# Altium footprint library Driver.PcbLib: 20 footprints (part 1 of 2)
Each footprint in its own frame and in the unit in brackets; x right, y up, seen from the top. Pads: shape width x height; smd on the part's side, far side on the other; paste and mask are expansions set on the pad; w line width, h text height; cw(c..) or ccw(c..) is an arc to the next point about the centre after c.
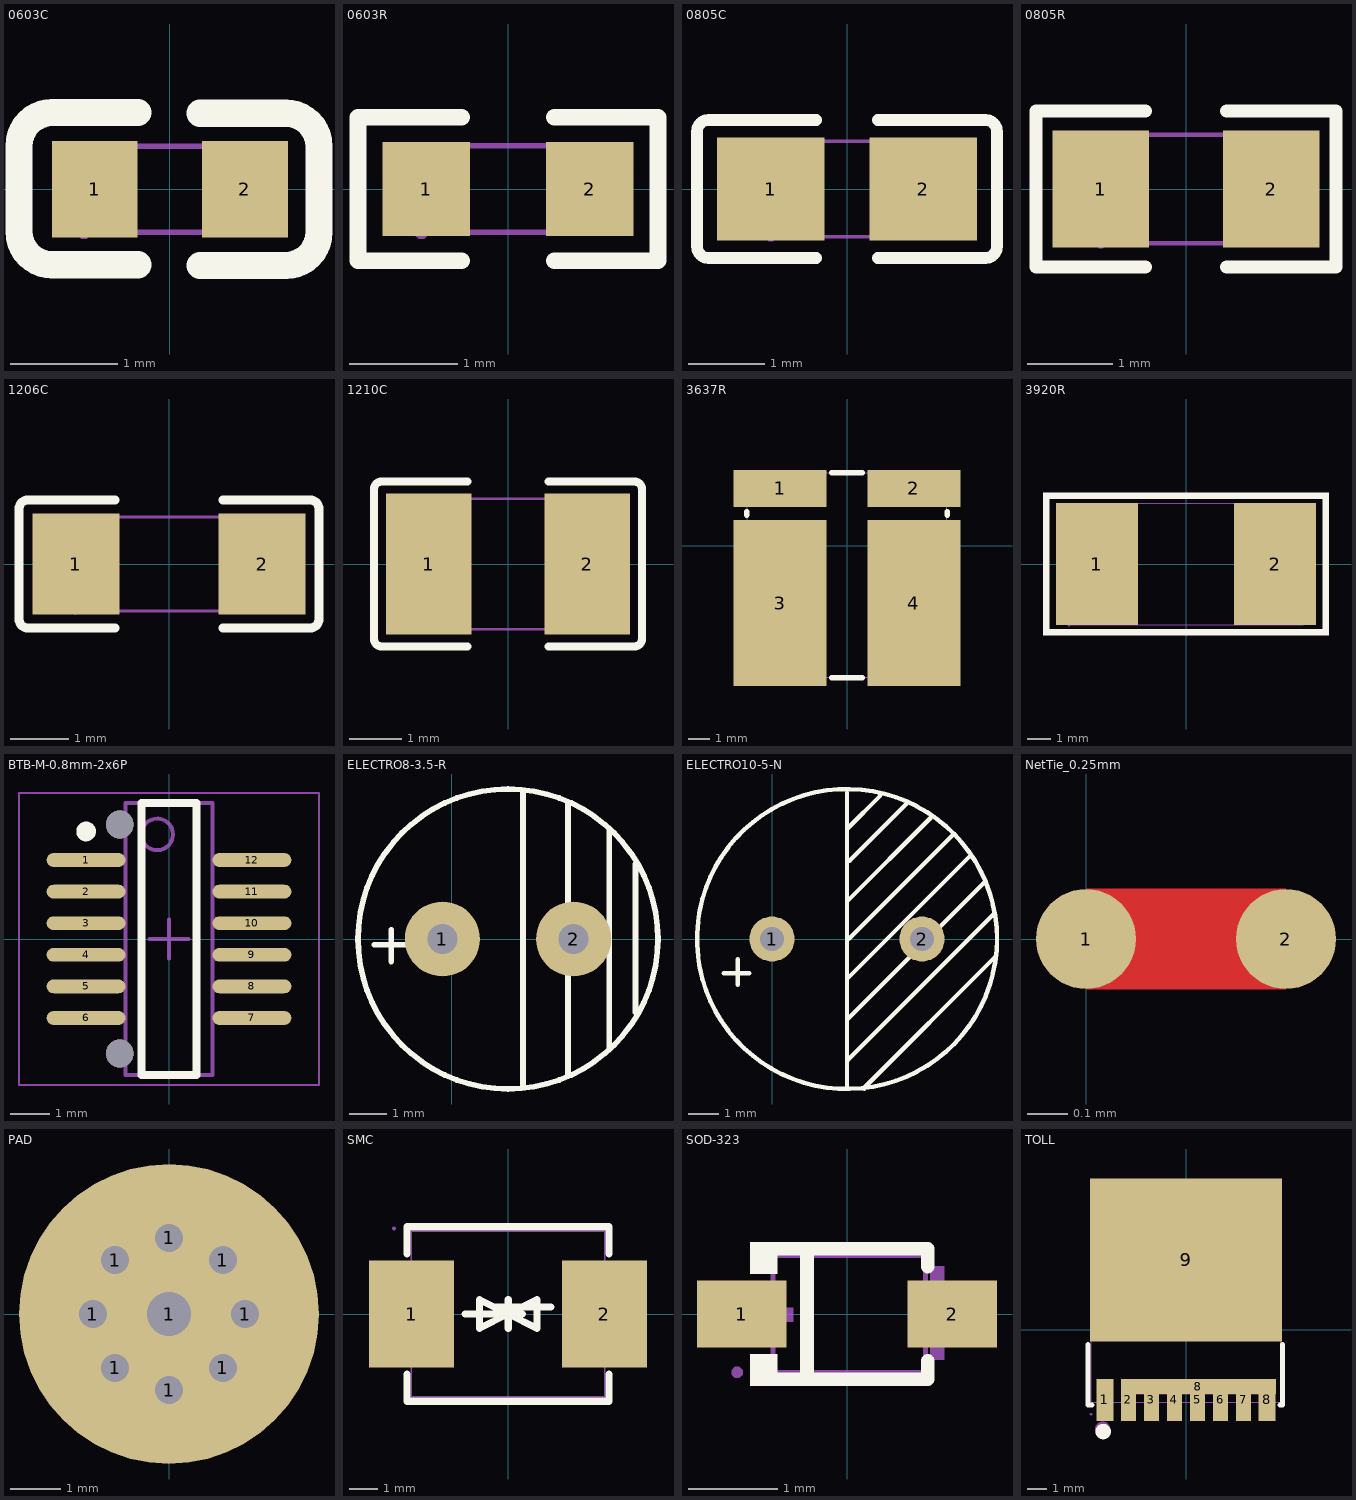
[diagram p0: the footprints below, top view; thin cyan lines are the x and y axes]

## 0603C [mm]
pads (2):
  rect 0.8x0.9 smd: 1(-0.7,0) 2(0.7,0)
Top Overlay:
  lines w0.254: -0.296,-0.704 -1.096,-0.704 cw(c-1.096,-0.394) -1.406,-0.394 -1.405,0.406 cw(c-1.096,0.406) -1.096,0.715 -0.296,0.715 ; 0.28,-0.71 1.08,-0.71 ccw(c1.08,-0.4) 1.39,-0.4 1.39,0.4 ccw(c1.08,0.4) 1.08,0.71 0.28,0.71
Mechanical 15:
  region: -0.8,-0.4 -0.8,0.4 -0.5,0.4 -0.5,-0.4
  region: 0.8,-0.4 0.8,0.4 0.5,0.4 0.5,-0.4
  region: -0.74,-0.4 -0.74,-0.375 -0.775,-0.34 -0.825,-0.34 -0.86,-0.375 -0.86,-0.4 -0.86,-0.425 -0.825,-0.46 -0.775,-0.46 -0.74,-0.425 -0.74,-0.4
  lines w0.051: -0.8,-0.4 -0.8,0.4 0.8,0.4 0.8,-0.4 -0.8,-0.4
3D body "cap_0603_lowprofile.step": height 0.6, standoff 0, extent -0.8,-0.381 0.8,0.419

## 0603R [mm]
pads (2):
  rect 0.806x0.864 smd paste-100 mask+0.051: 1(-0.753,0) 2(0.753,0)
Top Overlay:
  lines w0.152: -0.426,-0.661 -1.385,-0.661 -1.385,0.661 -0.426,0.661 ; 0.426,-0.661 1.385,-0.661 1.385,0.661 0.426,0.661
Top Paste:
  region: -0.355,0.4 -0.355,0.172 -0.735,0.172 -0.735,-0.158 -0.355,-0.158 -0.355,-0.4 -0.405,-0.45 -1.195,-0.45 -1.245,-0.4 -1.245,0.4 -1.195,0.45 -0.405,0.45
  region: 1.195,0.45 0.395,0.45 0.345,0.4 0.345,0.172 0.715,0.172 0.715,-0.158 0.345,-0.158 0.345,-0.4 0.395,-0.45 1.195,-0.45 1.245,-0.4 1.245,0.4
Mechanical 15:
  region: -0.74,-0.4 -0.74,-0.375 -0.775,-0.34 -0.825,-0.34 -0.86,-0.375 -0.86,-0.4 -0.86,-0.425 -0.825,-0.46 -0.775,-0.46 -0.74,-0.425 -0.74,-0.4
  region: 0.8,-0.4 0.8,0.4 0.5,0.4 0.5,-0.4
  region: -0.8,-0.4 -0.8,0.4 -0.5,0.4 -0.5,-0.4
  lines w0.051: -0.8,-0.4 0.8,-0.4 0.8,0.4 -0.8,0.4 -0.8,-0.4
3D body "RESC1608(0603).STEP": height 0.38, standoff 0, extent -0.8,-0.4 0.8,0.4

## 0805C [mm]
pads (2):
  rect 1.41x1.35 smd paste-100 mask+0.051: 1(-1,0) 2(1,0)
Top Overlay:
  lines w0.152: -0.401,-0.904 -1.811,-0.904 cw(c-1.811,-0.751) -1.964,-0.751 -1.964,0.751 cw(c-1.811,0.751) -1.811,0.904 -0.401,0.904 ; 0.401,-0.904 1.811,-0.904 ccw(c1.811,-0.751) 1.964,-0.751 1.964,0.751 ccw(c1.811,0.751) 1.811,0.904 0.401,0.904
Top Paste:
  region: -1.675,-0.62 -1.675,0.66 -1.625,0.71 -0.475,0.71 -0.425,0.66 -0.42,0.25 -0.87,0.25 -0.87,-0.2 -0.43,-0.2 -0.425,-0.62 -0.475,-0.67 -1.625,-0.67
  region: 0.475,-0.62 0.475,-0.2 0.92,-0.2 0.92,0.25 0.48,0.25 0.475,0.66 0.525,0.71 1.675,0.71 1.725,0.66 1.725,-0.62 1.675,-0.67 0.525,-0.67
Mechanical 15:
  region: -1,-0.625 -1,0.625 -0.5,0.625 -0.5,-0.625
  region: 1,0.625 1,-0.625 0.5,-0.625 0.5,0.625
  region: -0.94,-0.625 -0.94,-0.6 -0.975,-0.565 -1.025,-0.565 -1.06,-0.6 -1.06,-0.625 -1.06,-0.65 -1.025,-0.685 -0.975,-0.685 -0.94,-0.65 -0.94,-0.625
  lines w0.051: -1,-0.625 -1,0.625 1,0.625 1,-0.625 -1,-0.625
3D body "CAPC2012(0805).STEP": height 0.95, standoff 0, extent -1,-0.6 1,0.6

## 0805R [mm]
pads (2):
  rect 1.133x1.377 smd paste-100 mask+0.051: 1(-1,0) 2(1,0)
Top Overlay:
  lines w0.152: -0.476,-0.917 -1.761,-0.917 -1.761,0.917 -0.476,0.917 ; 0.476,-0.917 1.761,-0.917 1.761,0.917 0.476,0.917
Top Paste:
  region: 0.45,-0.64 0.45,-0.22 0.895,-0.22 0.895,0.23 0.455,0.23 0.45,0.64 0.5,0.69 1.65,0.69 1.7,0.64 1.7,-0.64 1.65,-0.69 0.5,-0.69
  region: -1.7,-0.64 -1.7,0.64 -1.65,0.69 -0.5,0.69 -0.45,0.64 -0.445,0.23 -0.895,0.23 -0.895,-0.22 -0.455,-0.22 -0.45,-0.64 -0.5,-0.69 -1.65,-0.69
Mechanical 15:
  region: -0.94,-0.638 -0.94,-0.613 -0.975,-0.578 -1.025,-0.578 -1.06,-0.613 -1.06,-0.638 -1.06,-0.662 -1.025,-0.698 -0.975,-0.698 -0.94,-0.662 -0.94,-0.638
  region: 1,-0.637 1,0.637 0.6,0.637 0.6,-0.637
  region: -1,-0.637 -1,0.637 -0.6,0.637 -0.6,-0.637
  lines w0.051: -1,-0.637 1,-0.637 1,0.637 -1,0.637 -1,-0.637
3D body "RESC2012(0805).STEP": height 0.5, standoff 0, extent -1,-0.6 1,0.6

## 1206C [mm]
pads (2):
  rect 1.485x1.728 smd paste-100 mask+0.051: 1(-1.593,0) 2(1.593,0)
Top Overlay:
  lines w0.152: -0.926,-1.093 -2.411,-1.093 cw(c-2.411,-0.94) -2.564,-0.94 -2.564,0.94 cw(c-2.411,0.94) -2.411,1.093 -0.926,1.093 ; 0.926,-1.093 2.411,-1.093 ccw(c2.411,-0.94) 2.564,-0.94 2.564,0.94 ccw(c2.411,0.94) 2.411,1.093 0.926,1.093
Top Paste:
  region: 0.85,-0.764 0.85,-0.394 0.95,-0.294 1.255,-0.294 1.355,-0.194 1.355,0.194 1.255,0.294 0.95,0.294 0.85,0.394 0.85,0.764 0.95,0.864 2.235,0.864 2.335,0.764 2.335,-0.764 2.235,-0.864 0.95,-0.864
  region: -0.85,-0.764 -0.85,-0.394 -0.95,-0.294 -1.255,-0.294 -1.355,-0.194 -1.355,0.194 -1.255,0.294 -0.95,0.294 -0.85,0.394 -0.85,0.764 -0.95,0.864 -2.235,0.864 -2.335,0.764 -2.335,-0.764 -2.235,-0.864 -0.95,-0.864
Mechanical 15:
  region: -1.54,-0.8 -1.54,-0.775 -1.575,-0.74 -1.625,-0.74 -1.66,-0.775 -1.66,-0.8 -1.66,-0.825 -1.625,-0.86 -1.575,-0.86 -1.54,-0.825 -1.54,-0.8
  region: -1.6,-0.8 -1.6,0.8 -1.1,0.8 -1.1,-0.8
  region: 1.6,-0.8 1.6,0.8 1.1,0.8 1.1,-0.8
  lines w0.051: -1.6,-0.8 -1.6,0.8 1.6,0.8 1.6,-0.8 -1.6,-0.8
3D body "C 1206.STEP": height 1.21, standoff -0.01, extent -1.6,-0.81 1.6,0.81

## 1210C [mm]
pads (2):
  rect 1.635x2.7 smd paste-100 mask+0.051: 1(-1.517,0) 2(1.517,0)
Top Overlay:
  lines w0.152: -0.776,-1.579 -2.411,-1.579 cw(c-2.411,-1.426) -2.564,-1.426 -2.564,1.426 cw(c-2.411,1.426) -2.411,1.579 -0.776,1.579 ; 0.776,-1.579 2.411,-1.579 ccw(c2.411,-1.426) 2.564,-1.426 2.564,1.426 ccw(c2.411,1.426) 2.411,1.579 0.776,1.579
Top Paste:
  region: 0.7,-1.25 0.7,-0.559 0.8,-0.459 1.156,-0.459 1.256,-0.359 1.256,0.359 1.156,0.459 0.8,0.459 0.7,0.559 0.7,1.25 0.8,1.35 2.235,1.35 2.335,1.25 2.335,-1.25 2.235,-1.35 0.8,-1.35
  region: -0.7,-1.25 -0.7,-0.559 -0.8,-0.459 -1.156,-0.459 -1.256,-0.359 -1.256,0.359 -1.156,0.459 -0.8,0.459 -0.7,0.559 -0.7,1.25 -0.8,1.35 -2.235,1.35 -2.335,1.25 -2.335,-1.25 -2.235,-1.35 -0.8,-1.35
Mechanical 15:
  region: -1.54,-1.25 -1.54,-1.225 -1.575,-1.19 -1.625,-1.19 -1.66,-1.225 -1.66,-1.25 -1.66,-1.275 -1.625,-1.31 -1.575,-1.31 -1.54,-1.275 -1.54,-1.25
  region: -1.6,-1.25 -1.6,1.25 -1,1.25 -1,-1.25
  region: 1.6,-1.25 1.6,1.25 1,1.25 1,-1.25
  lines w0.051: -1.6,-1.25 -1.6,1.25 1.6,1.25 1.6,-1.25 -1.6,-1.25
3D body "C 1210.STEP": height 1.54, standoff 0.01, extent -1.6,-1.285 1.6,1.285

## 3637R [mm]
pads (4):
  rect 4.27x1.68 smd paste+0 mask+0.05: 1(-3.075,2.63) 2(3.075,2.63)
  rect 4.27x7.62 smd paste+0 mask+0.05: 3(-3.075,-2.63) 4(3.075,-2.63)
Top Overlay:
  lines w0.254: -4.6,1.411 -4.6,1.559 ; -0.709,-6.05 0.709,-6.05 ; -0.709,3.35 0.709,3.35 ; 4.6,1.411 4.6,1.5 4.6,1.559
Mechanical 15:
  region: 1.06,0.954 4.57,0.954 4.57,-6.046 1.06,-6.046
  region: -4.57,0.954 -1.06,0.954 -1.06,-6.046 -4.57,-6.046
  region: -4.57,3.354 -1.06,3.354 -1.06,1.804 -4.57,1.804
  region: 1.06,3.354 4.57,3.354 4.57,1.804 1.06,1.804
  region: -4.57,3.294 -4.546,3.294 -4.511,3.329 -4.511,3.378 -4.545,3.413 -4.57,3.414 -4.594,3.413 -4.629,3.378 -4.629,3.33 -4.595,3.294 -4.57,3.294
  lines w0.051: -4.57,-6.046 4.57,-6.046 4.57,3.354 -4.57,3.354 -4.57,-6.046
3D body "3637R.STEP": height 1.35, standoff 0, extent -4.572,-6.229 4.528,3.181

## 3920R [mm]
pads (2):
  rect 3.5x5.2 smd: 1(-3.81,0) 2(3.81,0)
Top Overlay:
  region: 5.842,-3.048 -5.842,-3.048 -5.842,-2.794 5.842,-2.794
  region: 6.096,3.048 6.096,-3.048 5.842,-3.048 5.842,2.794
  region: -6.096,-3.048 -6.096,3.048 -5.842,3.048 6.096,3.048 6.096,2.794 -5.842,2.794 -5.842,-3.048
Mechanical 15:
  region: 5,-2.6 2.25,-2.6 2.25,2.6 5,2.6
  region: -5,2.6 -2.25,2.6 -2.25,-2.6 -5,-2.6
  region: -5,-2.66 -4.975,-2.66 -4.94,-2.625 -4.94,-2.575 -4.975,-2.54 -5,-2.54 -5.025,-2.54 -5.06,-2.575 -5.06,-2.625 -5.025,-2.66 -5,-2.66
  lines w0.051: -5,-2.6 -5,2.6 5,2.6 5,-2.6 -5,-2.6
3D body "3920R.STEP": height 0.93, standoff -0.09, extent -4.964,-2.56 4.964,2.54

## BTB-M-0.8mm-2x6P [mm] "0.8间距2x6P公座，SMD"
height 2
pads (12):
  oval 2x0.35 smd: 1(-2.1,2) 2(-2.1,1.2) 3(-2.1,0.4) 4(-2.1,-0.4) 5(-2.1,-1.2) 6(-2.1,-2) 7(2.1,-2) 8(2.1,-1.2) 9(2.1,-0.4) 10(2.1,0.4) 11(2.1,1.2) 12(2.1,2)
via -1.25,-2.9 diameter 0.7 hole 0.7
via -1.25,2.9 diameter 0.7 hole 0.7
Top Overlay:
  circle w0.25: c-2.1,2.725 r0.125
  lines w0.2: -0.7,-3.45 -0.7,3.45 0.7,3.45 0.7,-3.45 -0.7,-3.45
Mechanical 13:
  circle w0.1: c-0.3,2.65 r0.4
  lines w0.1: -1.1,-3.45 -1.1,3.45 1.1,3.45 1.1,-3.45 -1.1,-3.45
Mechanical 15:
  lines w0.05: -3.8,-3.7 -3.8,3.7 3.8,3.7 3.8,-3.7 -3.8,-3.7
  lines w0.1: -0.5,0 0.5,0 ; 0,-0.5 0,0.5
3D body: height 2, standoff 0.1, extent -1.1,-3.45 1.1,3.45

## ELECTRO8-3.5-R [mm]
pads (2):
  round 2 hole 0.8: 1(-0.25,0) 2(3.25,0)
Top Overlay:
  circle w0.15: c1.5,0 r4
  lines w0.15: -2.068,-0.15 -1.218,-0.15 ; -1.618,-0.6 -1.618,0.25 ; 1.9,-3.9 1.9,3.9 ; 3.1,-3.6 3.1,3.65 ; 4.2,-2.95 4.2,2.95 ; 4.9,-1.95 4.9,2
3D body "User_Library-CAP_8X11_5.step": height 11.54, standoff -18.95, extent -2.5,-4 5.5,4

## ELECTRO10-5-N [mm]
pads (2):
  round 1.5 hole 0.8: 1(0,0) 2(5,0)
Top Overlay:
  circle w0.15: c2.5,0 r5
  lines w0.15: -1.612,-1.143 -0.762,-1.143 ; -1.143,-1.524 -1.143,-0.674 ; 2.5,-4.918 2.5,0 ; 2.5,-4.034 2.525,-4.034 7.389,0.831 ; 2.5,-2.703 2.5,-2.687 7.087,1.9 ; 2.5,-1.491 2.5,-1.335 6.584,2.748 ; 2.5,1.194 2.5,1.248 5.291,4.039 ; 2.5,2.606 2.586,2.606 4.483,4.503 ; 2.5,3.696 2.525,3.696 3.614,4.785 ; 2.5,4.883 2.5,0 ; 3.071,-4.983 3.071,-4.963 7.45,-0.584 ; 6.017,3.454 2.563,0 2.5,0
3D body "User_Library-Cap_electro_10x12_5x5_0mm.step": height 12.78, standoff -3.73, extent -2.475,-5.025 7.575,5.025

## NetTie_0.25mm [mm] "Net tie, 0.25mm"
pads (2):
  round 0.25 smd paste-2: 1(0,0) 2(0.5,0)
Top Layer:
  region: 0,0.125 0.5,0.125 0.5,-0.125 0,-0.125

## PAD [mil] "Connector; Header; 3x2 Position"
pads (9):
  round 22 hole 22: 1(-60,0) 1(-42.43,-42.43) 1(-42.43,42.43) 1(0,-60) 1(0,60) 1(42.43,-42.43) 1(42.43,42.43) 1(60,0)
  round 236.22 hole 35: 1(0,0)

## SMC [mm]
pads (2):
  rect 3.03x3.82 smd: 1(-3.435,0) 2(3.435,0)
Top Overlay:
  lines w0.254: -3.6,-2.141 -3.6,-3.11 3.6,-3.11 3.6,-2.141 ; -3.6,2.141 -3.6,3.11 3.6,3.11 3.6,2.141 ; -1.524,0 0.508,0 ; -0.496,0.254 1.536,0.254 ; 0,-0.508 0,0.508 0,0 ; 0.012,0.508 0.012,-0.508 0.012,0 ; 0,0 -1.016,0.508 -1.016,-0.508 0,0 ; 0.012,0 1.028,0.508 1.028,-0.508 0.012,0
Mechanical 15:
  region: 2.812,1.525 3.952,1.525 3.952,-1.525 2.812,-1.525
  region: -3.949,1.525 -2.809,1.525 -2.809,-1.525 -3.949,-1.525
  region: -4.124,3.048 -4.124,3.023 -4.089,2.989 -4.039,2.989 -4.004,3.023 -4.004,3.048 -4.004,3.073 -4.039,3.107 -4.089,3.107 -4.124,3.073 -4.124,3.048
  lines w0.051: -3.45,-2.95 -3.45,2.95 3.45,2.95 3.45,-2.95 -3.45,-2.95
3D body "SMC.STEP": height 2.45, standoff 0.03, extent -3.953,-2.9 3.953,2.9

## SOD-323 [mm]
pads (2):
  rect 1x0.75 smd: 1(-1.173,0) 2(1.173,0)
Top Overlay:
  region: -0.775,-0.802 -0.775,-0.45 -1.08,-0.45 -1.08,-0.802
  region: -0.775,0.802 -0.775,0.45 -1.08,0.45 -1.08,0.802
  lines w0.152: -0.851,-0.726 0.901,-0.726 0.901,-0.52 ; -0.851,0.726 0.901,0.726 0.901,0.53 ; -0.447,-0.726 -0.447,0.726
Mechanical 6:
  region: 1.083,0.53 1.083,-0.51 0.927,-0.51 0.927,0.53
  region: 1.315,0.09 1.315,-0.066 0.691,-0.066 0.691,0.09
  region: -1.225,0.07 -1.225,-0.086 -0.601,-0.086 -0.601,0.07
Mechanical 15:
  region: -0.815,0.16 -0.815,-0.16 -0.935,-0.16 -0.935,0.16
  region: -0.925,0.16 -0.925,-0.16 -1.225,-0.16 -1.225,0.16
  region: 0.985,0.16 0.985,-0.16 0.865,-0.16 0.865,0.16
  region: 1.275,0.16 1.275,-0.16 0.975,-0.16 0.975,0.16
  region: -1.285,-0.65 -1.285,-0.675 -1.25,-0.71 -1.2,-0.71 -1.165,-0.675 -1.165,-0.65 -1.165,-0.625 -1.2,-0.59 -1.25,-0.59 -1.285,-0.625 -1.285,-0.65
  lines w0.051: -0.825,-0.65 -0.825,0.65 0.875,0.65 0.875,-0.65 -0.825,-0.65
3D body "SOD-323.STEP": height 1, standoff 0.04, extent -1.324,-0.65 1.324,0.65

## TOLL [mm]
pads (10):
  rect 0.9x2.2 smd paste-100 mask+0.05: 1(-4.225,-3.65) 8(4.225,-3.65)
  rect 0.8x2.2 smd paste-100 mask+0.05: 2(-3,-3.65) 3(-1.8,-3.65) 4(-0.6,-3.65) 5(0.6,-3.65) 6(1.8,-3.65) 7(3,-3.65)
  rect 8.08x0.8 smd paste-100 mask+0.05: 8(0.64,-2.95)
  rect 10x8.5 smd paste-100 mask+0.05: 9(0,3.65)
Top Overlay:
  circle w0.4: c-4.318,-5.301 r0.2
  lines w0.254: -5.1,-0.76 -5.1,-3.91 -4.906,-3.91 ; 4.906,-3.91 5.04,-3.91 5.04,-0.76
Top Paste:
  region: -4.675,-2.55 -3.775,-2.55 -3.775,-4.75 -4.675,-4.75
  region: -2.58,-4.75 -2.58,-3.35 -2.19,-3.35 -2.19,-4.75 -1.38,-4.75 -1.38,-3.35 -0.99,-3.35 -0.99,-4.75 -0.18,-4.75 -0.18,-3.35 0.22,-3.35 0.22,-4.75 1.01,-4.75 1.01,-3.35 1.42,-3.35 1.42,-4.75 2.21,-4.75 2.21,-3.36 2.22,-3.35 2.61,-3.35 2.61,-4.75 3.42,-4.75 3.42,-3.35 3.79,-3.35 3.79,-4.75 4.7,-4.75 4.7,-2.55 -3.42,-2.55 -3.42,-4.75
  region: -5,7.9 5,7.9 5,-0.6 -5,-0.6
Mechanical 6:
  circle w0.4: c-4.348,-5.181 r0.2
Mechanical 15:
  region: -4.89,-4.4 -4.89,-4.375 -4.925,-4.34 -4.975,-4.34 -5.01,-4.375 -5.01,-4.4 -5.01,-4.425 -4.975,-4.46 -4.925,-4.46 -4.89,-4.425 -4.89,-4.4
  region: 3.915,-3.21 4.615,-3.21 4.615,-4.36 3.915,-4.36
  region: 2.685,-3.21 3.385,-3.21 3.385,-4.36 2.685,-4.36
  region: 1.485,-3.21 2.185,-3.21 2.185,-4.36 1.485,-4.36
  region: 0.285,-3.21 0.985,-3.21 0.985,-4.36 0.285,-4.36
  region: -0.915,-3.21 -0.215,-3.21 -0.215,-4.36 -0.915,-4.36
  region: -2.115,-3.21 -1.415,-3.21 -1.415,-4.36 -2.115,-4.36
  region: -3.315,-3.21 -2.615,-3.21 -2.615,-4.36 -3.315,-4.36
  region: 4.61,-3.35 4.61,-2.6 -3.31,-2.6 -3.31,-3.35
  region: -4.9,7.32 4.9,7.32 4.9,6.72 4.05,6.72 4.05,0.41 -4.05,0.41 -4.05,6.72 -4.9,6.72
  region: -4.575,-2.6 -3.875,-2.6 -3.875,-4.4 -4.575,-4.4
  lines w0.051: -4.95,-3.76 4.95,-3.76 4.95,6.62 -4.95,6.62 -4.95,-3.76
3D body "TOLL.STEP": height 2.32, standoff 0, extent -4.95,-4.445 4.95,7.235